# Altium footprint library XL_HC49U.PcbLib: 1 footprints
Each footprint in its own frame and in the unit in brackets; x right, y up, seen from the top. Pads: shape width x height; smd on the part's side, far side on the other; paste and mask are expansions set on the pad; w line width, h text height; cw(c..) or ccw(c..) is an arc to the next point about the centre after c.
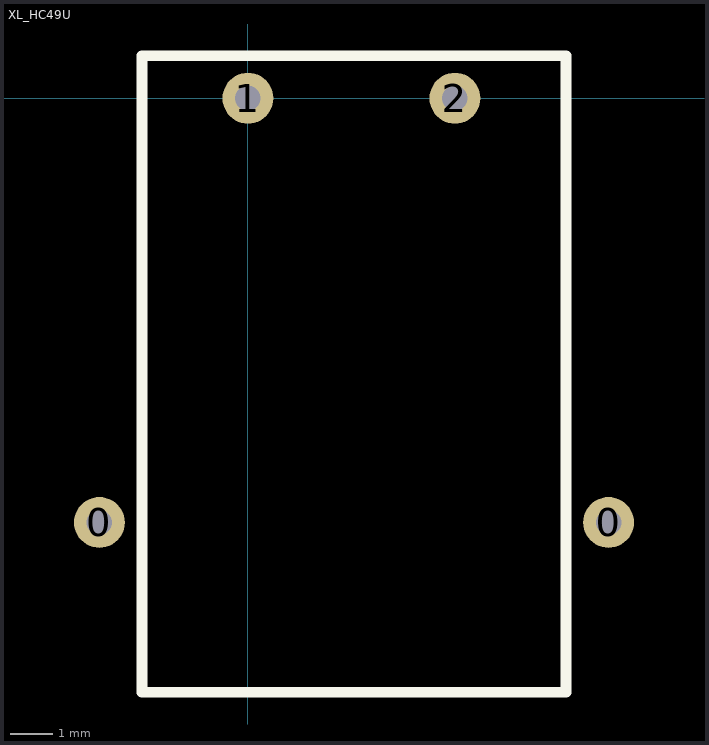
[diagram p0: the footprint, top view; thin cyan lines are the x and y axes]

## XL_HC49U [mm]
pads (4):
  round 1.2 hole 0.6: 0(-3.5,-10) 0(8.5,-10) 1(0,0) 2(4.88,0)
Top Overlay:
  lines w0.254: -2.5,-14 7.5,-14 7.5,1 -2.5,1 -2.5,-14
3D body: height 4.67, standoff 0, extent -3,-14.485 8.173,0.975